# EAGLE library part CS8952EB (library cirrus)
ETHERNET TRANSCEIVER CrystalLAN 100BASE-X and 10BASE-T Transceiver
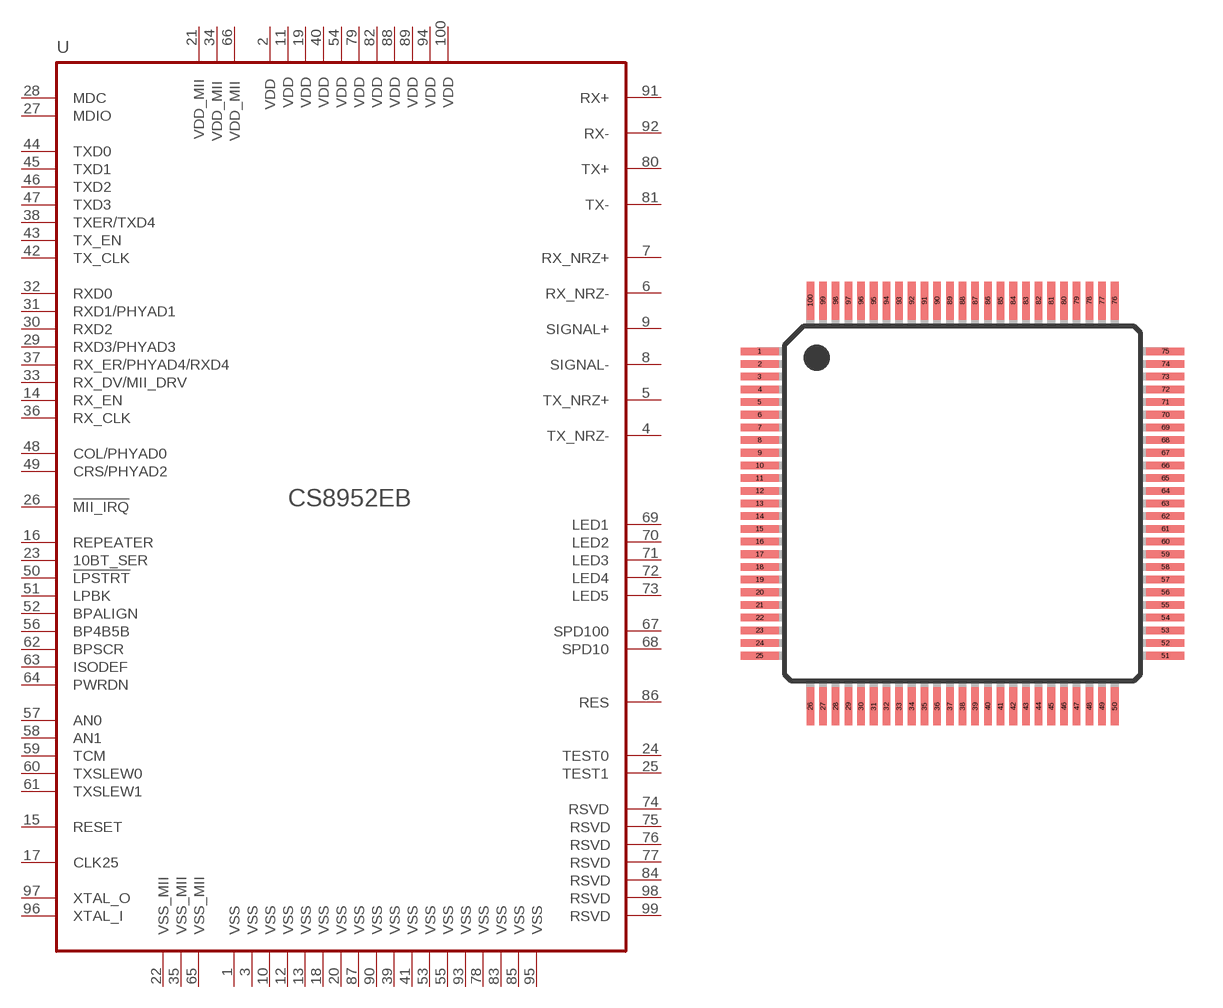
[diagram p5: symbol with the pads of TQFP100; footprint TQFP100]

Designator prefix U

## CS8952EB  [TQFP100]
1  VSS  pwr
2  VDD  pwr
3  VSS1  pwr
4  TX_NRZ-
5  TX_NRZ+
6  RX_NRZ-
7  RX_NRZ+
8  SIGNAL-
9  SIGNAL+
10  VSS2  pwr
11  VDD1  pwr
12  VSS3  pwr
13  VSS4  pwr
14  RX_EN
15  RESET  in
16  REPEATER
17  CLK25  out
18  VSS5  pwr
19  VDD2  pwr
20  VSS6  pwr
21  VDD_MII  pwr
22  VSS_MII  pwr
23  10BT_SER
24  TEST0
25  TEST1  in
26  !MII_IRQ!  out
27  MDIO
28  MDC  in
29  RXD3/PHYAD3  out
30  RXD2  out
31  RXD1/PHYAD1  out
32  RXD0  out
33  RX_DV/MII_DRV
34  VDD_MII1  pwr
35  VSS_MII1  pwr
36  RX_CLK  out
37  RX_ER/PHYAD4/RXD4
38  TXER/TXD4
39  VSS9  pwr
40  VDD3  pwr
41  VSS10  pwr
42  TX_CLK
43  TX_EN  in
44  TXD0  in
45  TXD1  in
46  TXD2  in
47  TXD3  in
48  COL/PHYAD0  out
49  CRS/PHYAD2
50  !LPSTRT!  in
51  LPBK  in
52  BPALIGN
53  VSS11  pwr
54  VDD4  pwr
55  VSS12  pwr
56  BP4B5B
57  AN0
58  AN1
59  TCM  in
60  TXSLEW0  in
61  TXSLEW1  in
62  BPSCR
63  ISODEF
64  PWRDN  in
65  VSS_MII2  pwr
66  VDD_MII2  pwr
67  SPD100  out
68  SPD10  out
69  LED1  out
70  LED2  out
71  LED3  out
72  LED4  out
73  LED5  out
74  RSVD  pwr
75  RSVD1  pwr
76  RSVD2  pwr
77  RSVD3  pwr
78  VSS14  pwr
79  VDD5  pwr
80  TX+  out
81  TX-  out
82  VDD6  pwr
83  VSS15  pwr
84  RSVD4  pwr
85  VSS16  pwr
86  RES
87  VSS7  pwr
88  VDD7  pwr
89  VDD8  pwr
90  VSS8  pwr
91  RX+  in
92  RX-  in
93  VSS13  pwr
94  VDD9  pwr
95  VSS17  pwr
96  XTAL_I  pas
97  XTAL_O  pas
98  RSVD5  pwr
99  RSVD6  pwr
100  VDD10  pwr

## Footprint TQFP100 (pad centres in mm)
Plastic Thin Quad Flat Pack
smd 1.5 x 0.3: 1 -8,6; 2 -8,5.5; 3 -8,5; 4 -8,4.5; 5 -8,4; 6 -8,3.5; 7 -8,3; 8 -8,2.5; 9 -8,2; 10 -8,1.5; 11 -8,1; 12 -8,0.5; 13 -8,0; 14 -8,-0.5; 15 -8,-1; 16 -8,-1.5; 17 -8,-2; 18 -8,-2.5; 19 -8,-3; 20 -8,-3.5; 21 -8,-4; 22 -8,-4.5; 23 -8,-5; 24 -8,-5.5; 25 -8,-6; 51 8,-6; 52 8,-5.5; 53 8,-5; 54 8,-4.5; 55 8,-4; 56 8,-3.5; 57 8,-3; 58 8,-2.5; 59 8,-2; 60 8,-1.5; 61 8,-1; 62 8,-0.5; 63 8,0; 64 8,0.5; 65 8,1; 66 8,1.5; 67 8,2; 68 8,2.5; 69 8,3; 70 8,3.5; 71 8,4; 72 8,4.5; 73 8,5; 74 8,5.5; 75 8,6
smd 0.3 x 1.5: 26 -6,-8; 27 -5.5,-8; 28 -5,-8; 29 -4.5,-8; 30 -4,-8; 31 -3.5,-8; 32 -3,-8; 33 -2.5,-8; 34 -2,-8; 35 -1.5,-8; 36 -1,-8; 37 -0.5,-8; 38 0,-8; 39 0.5,-8; 40 1,-8; 41 1.5,-8; 42 2,-8; 43 2.5,-8; 44 3,-8; 45 3.5,-8; 46 4,-8; 47 4.5,-8; 48 5,-8; 49 5.5,-8; 50 6,-8; 76 6,8; 77 5.5,8; 78 5,8; 79 4.5,8; 80 4,8; 81 3.5,8; 82 3,8; 83 2.5,8; 84 2,8; 85 1.5,8; 86 1,8; 87 0.5,8; 88 0,8; 89 -0.5,8; 90 -1,8; 91 -1.5,8; 92 -2,8; 93 -2.5,8; 94 -3,8; 95 -3.5,8; 96 -4,8; 97 -4.5,8; 98 -5,8; 99 -5.5,8; 100 -6,8